# Altium schematic symbol library UserLibrary.SchLib: 88 symbols
Pins are listed as number, name and electrical type; pins without a type are passive.

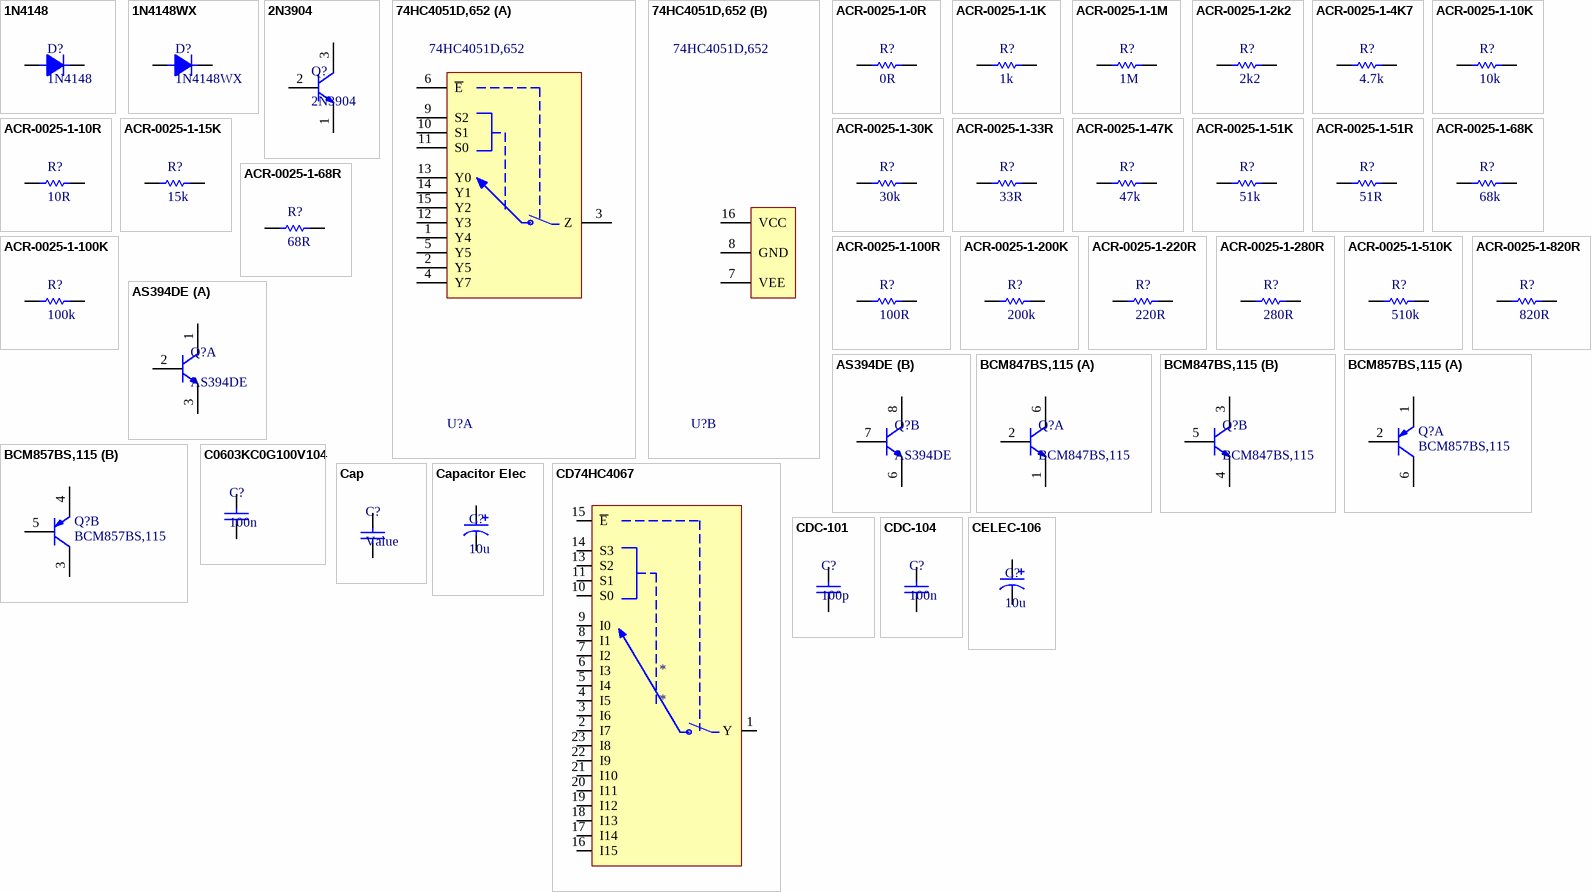
[diagram p0: symbols 1N4148 to CELEC-106]

## 1N4148
designator D?
footprint SOD27
pins: 1, 2

## 1N4148WX
designator D?
footprint SOD323
pins: 1, 2

## 2N3904
designator Q?
footprint TO-92
pins: 1, 2, 3

## 74HC4051D,652
designator U?
IC MUX/DEMUX 8X1 16SOIC; Manufacturer: Nexperia; Supplier 1: RSComponents; Manufacturer Part Number: 74HC4051D,652; RoHS: Yes; Category: Decoders and Multiplexers; Stock 1: 155; Pricing 1: 1=0.52000, 70=0.49300, 100=0.47900, 250=0.43800, 500=0.42400 (USD); RoHS Compliant: Yes; ComponentLink1URL: https://assets.nexperia.com/documents/data-sheet/74HC_HCT4051.pdf?src-supplier=Digi-Key; ComponentLink1Description: https://assets.nexperia.com/documents/data-sheet/74HC_HCT4051.pdf?src-supplier=Digi-Key; Supplier Part Number 1: 1697756
footprint SOIC16
part A pins: 1 Y4, 2 Y5, 3 Z, 4 Y7, 5 Y5, 6 ~{E}, 9 S2, 10 S1, 11 S0, 12 Y3, 13 Y0, 14 Y1, 15 Y2
part B pins: 7 VEE, 8 GND, 16 VCC

## ACR-0025-1-0R
designator R?, comment 0R
Axial Carbon Film Resistor
footprint Axial 0.25W Resistor
pins: 1, 2

## ACR-0025-1-1K
designator R?, comment 1k
Axial Carbon Film Resistor
footprint Axial 0.25W Resistor
pins: 1, 2

## ACR-0025-1-1M
designator R?, comment 1M
Axial Carbon Film Resistor
footprint Axial 0.25W Resistor
pins: 1, 2

## ACR-0025-1-2k2
designator R?, comment 2k2
Axial Carbon Film Resistor
footprint Axial 0.25W Resistor
pins: 1, 2

## ACR-0025-1-4K7
designator R?, comment 4.7k
Axial Carbon Film Resistor
footprint Axial 0.25W Resistor
pins: 1, 2

## ACR-0025-1-10K
designator R?, comment 10k
Axial Carbon Film Resistor
footprint Axial 0.25W Resistor
pins: 1, 2

## ACR-0025-1-10R
designator R?, comment 10R
Axial Carbon Film Resistor
footprint Axial 0.25W Resistor
pins: 1, 2

## ACR-0025-1-15K
designator R?, comment 15k
Axial Carbon Film Resistor
footprint Axial 0.25W Resistor
pins: 1, 2

## ACR-0025-1-30K
designator R?, comment 30k
Axial Carbon Film Resistor
footprint Axial 0.25W Resistor
pins: 1, 2

## ACR-0025-1-33R
designator R?, comment 33R
Axial Carbon Film Resistor
footprint Axial 0.25W Resistor
pins: 1, 2

## ACR-0025-1-47K
designator R?, comment 47k
Axial Carbon Film Resistor
footprint Axial 0.25W Resistor
pins: 1, 2

## ACR-0025-1-51K
designator R?, comment 51k
Axial Carbon Film Resistor
footprint Axial 0.25W Resistor
pins: 1, 2

## ACR-0025-1-51R
designator R?, comment 51R
Axial Carbon Film Resistor
footprint Axial 0.25W Resistor
pins: 1, 2

## ACR-0025-1-68K
designator R?, comment 68k
Axial Carbon Film Resistor
footprint Axial 0.25W Resistor
pins: 1, 2

## ACR-0025-1-68R
designator R?, comment 68R
Axial Carbon Film Resistor
footprint Axial 0.25W Resistor
pins: 1, 2

## ACR-0025-1-100K
designator R?, comment 100k
Axial Carbon Film Resistor
footprint Axial 0.25W Resistor
pins: 1, 2

## ACR-0025-1-100R
designator R?, comment 100R
Axial Carbon Film Resistor
footprint Axial 0.25W Resistor
pins: 1, 2

## ACR-0025-1-200K
designator R?, comment 200k
Axial Carbon Film Resistor
footprint Axial 0.25W Resistor
pins: 1, 2

## ACR-0025-1-220R
designator R?, comment 220R
Axial Carbon Film Resistor
footprint Axial 0.25W Resistor
pins: 1, 2

## ACR-0025-1-280R
designator R?, comment 280R
Axial Carbon Film Resistor
footprint Axial 0.25W Resistor
pins: 1, 2

## ACR-0025-1-510K
designator R?, comment 510k
Axial Carbon Film Resistor
footprint Axial 0.25W Resistor
pins: 1, 2

## ACR-0025-1-820R
designator R?, comment 820R
Axial Carbon Film Resistor
footprint Axial 0.25W Resistor
pins: 1, 2

## AS394DE
designator Q?
footprint SOIC8
part A pins: 1, 2, 3
part B pins: 6, 7, 8

## BCM847BS,115
designator Q?
Trans GP BJT NPN 45V 0.1A 300mW Automotive 6-Pin TSSOP T/R; Manufacturer: Nexperia; Supplier 1: RSComponents; Manufacturer Part Number: BCM847BS,115; RoHS: Yes; Stock 1: 320; Pricing 1: 20=0.28200, 200=0.14100 (USD); RoHS Compliant: Yes; Supplier Part Number 1: 7920844
footprint SOT363
part A pins: 1, 2, 6
part B pins: 3, 4, 5

## BCM857BS,115
designator Q?
TRANS 2PNP 45V 0.1A 6TSSOP; Manufacturer: Nexperia; Supplier 1: RSComponents; Manufacturer Part Number: BCM857BS,115; RoHS: Yes; Category: BJTs; Stock 1: 1940; Pricing 1: 20=0.28200, 100=0.24000, 400=0.21200, 1000=0.18300 (USD); ComponentLink1URL: https://assets.nexperia.com/documents/data-sheet/BCM857BV_BS_DS.pdf?src-supplier=Digi-Key; ComponentLink1Description: https://assets.nexperia.com/documents/data-sheet/BCM857BV_BS_DS.pdf?src-supplier=Digi-Key; Supplier Part Number 1: 0509706
footprint SOT363
part A pins: 1, 2, 6
part B pins: 3, 4, 5

## C0603KC0G100V104
designator C?, comment 100n
footprint C0603
pins: 1, 2

## Cap
designator C?, comment Value
footprint C0805
pins: 1, 2

## Capacitor Elec
designator C?, comment 10u
footprint CELEC_SIZE_B
pins: 1, 2

## CD74HC4067
designator *
pins: 1 Y, 2 I7, 3 I6, 4 I5, 5 I4, 6 I3, 7 I2, 8 I1, 9 I0, 10 S0, 11 S1, 13 S2, 14 S3, 15 ~{E}, 16 I15, 17 I14, 18 I13, 19 I12, 20 I11, 21 I10, 22 I9, 23 I8

## CDC-101
designator C?, comment 100p
footprint CAP DISC 2.54MM PITCH 5.0 DIAMETER
pins: 1, 2

## CDC-104
designator C?, comment 100n
footprint CAP DISC 2.54MM PITCH 5.0 DIAMETER
pins: 1, 2

## CELEC-106
designator C?, comment 10u
Radial Electrolytic Capacitor
footprint CELEC_R_5x11_3
pins: 1, 2

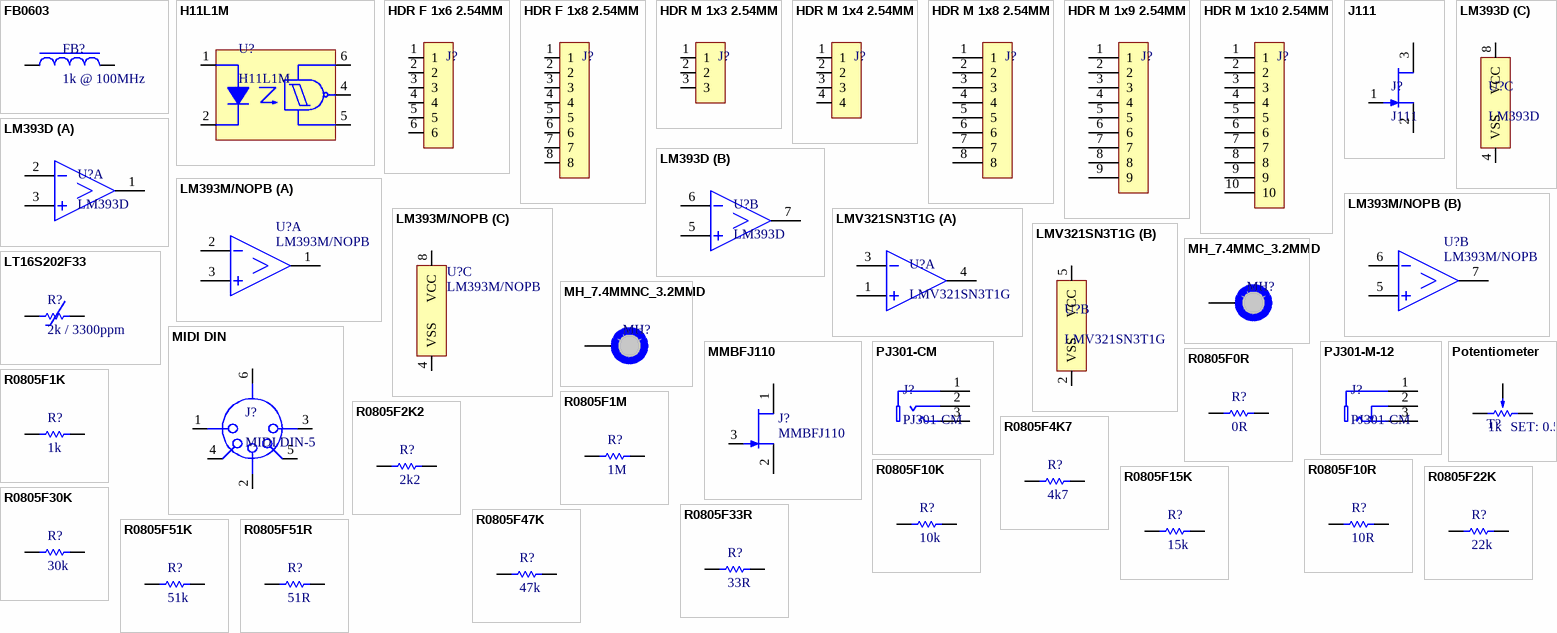
[diagram p1: symbols FB0603 to R0805F51R]

## FB0603
designator FB?, comment 1k @ 100MHz
footprint FB0603
pins: 1, 2

## H11L1M
designator U?
footprint H11L1M
pins: 1 A, 2 K, 4 Vo, 5 GND, 6 VCC

## HDR F 1x6 2.54MM
designator J?, comment HDR M  (value not drawn)
footprint HDR F 1x6 2.54MM
pins: 1, 2, 3, 4, 5, 6

## HDR F 1x8 2.54MM
designator J?  (value not drawn)
footprint HDR F 1x8 2.54MM
pins: 1, 2, 3, 4, 5, 6, 7, 8

## HDR M 1x3 2.54MM
designator J?, comment HDR M  (value not drawn)
footprint HDR M 1x3 2.54MM
pins: 1, 2, 3

## HDR M 1x4 2.54MM
designator J?, comment HDR 1x4  (value not drawn)
footprint HDR M 1x4 2.54MM
pins: 1, 2, 3, 4

## HDR M 1x8 2.54MM
designator J?  (value not drawn)
footprint HDR M 1x8 2.54MM
pins: 1, 2, 3, 4, 5, 6, 7, 8

## HDR M 1x9 2.54MM
designator J?, comment HDR M 1x8 2.54MM  (value not drawn)
footprint HDR M 1x9 2.54MM
pins: 1, 2, 3, 4, 5, 6, 7, 8, 9

## HDR M 1x10 2.54MM
designator J?, comment HDR M 1x8 2.54MM  (value not drawn)
footprint HDR M 1x10 2.54MM
pins: 1, 2, 3, 4, 5, 6, 7, 8, 9, 10

## J111
designator J?
footprint TO-92
pins: 1, 2, 3

## LM393D
designator U?
STMICROELECTRONICS - LM393D - COMPARATOR, DUAL, MICROPWR, 8SOIC; Number of Channels: 2; Voltage Gain: 106.02dB; Min Supply Voltage: 2V; Max Supply Voltage: 36V; Min Dual Supply Voltage: 1V; Max Dual Supply Voltage: 18V; Max Power Dissipation: 710mW; Nominal Supply Current: 1mA; Dual Supply Voltage: 9V; Propagation Delay: 1.3us; Input Bias Current: 250nA; Output Current per Channel: 100pA; Input Offset Voltage (Vos): 5mV; Output Current: 18mA; Quiescent Current: 2.5mA; Natural Thermal Resistance: 125°C/W; Output Type: TTL; Supplier 1: RSComponents; Manufacturer: STMicroelectronics; Manufacturer Part Number: LM393D; RoHS: Yes; Category: Comparators; Stock 1: 600; Pricing 1: 20=0.11400, 100=0.09600, 400=0.08600, 1000=0.07400 (USD); Mount: Surface Mount; Case/Package: SO; Number of Pins: 8; Weight: 0.01lb; Min Operating Temperature: 0°C; Max Operating Temperature: 70°C; Packaging: Rail/Tube; Package Quantity: 100; Series: LM393; Number of Elements: 2; Max Supply Current: 1mA; Response Time: 1.3us; Max Input Current: 250nA; Turn-On Delay Time: 1.3us; Power Dissipation: 710mW; Type: General Purpose; Supply Current: 1mA; Amplifier Type: COMPARATOR; Technology: BIPOLAR; Length: 4.9mm; Width: 3.9mm; Height: 1.25mm; Radiation Hardening: No; RoHS Compliant: Yes; Lead Free: Lead Free; REACH SVHC: No SVHC; ComponentLink1URL: https://datasheet.ciiva.com/29306/155601-da-01-en-komp-lm393d-stm-29306834.pdf?src-supplier=Conrad; ComponentLink1Description: https://datasheet.ciiva.com/29306/155601-da-01-en-komp-lm393d-stm-29306834.pdf?src-supplier=Conrad; ComponentLink2URL: https://datasheet.ciiva.com/1483/1689826-1483064.pdf?src-supplier=Element14; ComponentLink2Description: https://datasheet.ciiva.com/1483/1689826-1483064.pdf?src-supplier=Element14; ComponentLink3URL: https://datasheet.ciiva.com/14153/lflm393-datasheet-en-14153098.pdf?src-supplier=Distrelec; ComponentLink3Description: https://datasheet.ciiva.com/14153/lflm393-datasheet-en-14153098.pdf?src-supplier=Distrelec; ComponentLink4URL: https://datasheet.ciiva.com/1829/cd00000465-1829570.pdf?src-supplier=Digi-Key; ComponentLink4Description: https://datasheet.ciiva.com/1829/cd00000465-1829570.pdf?src-supplier=Digi-Key; Supplier Part Number 1: 7140830
footprint SOIC8
part A pins: 1, 2, 3
part B pins: 5, 6, 7
part C pins: 4 VSS, 8 VCC

## LM393M/NOPB
designator U?
IC COMP DUAL LO PWR 8-SOIC; Manufacturer: TI National Semiconductor; Nominal Supply Current: 1mA; Output Current: 16mA; Number of Channels: 2; Response Time: 1.3us; Quiescent Current: 2.5mA; Max Supply Voltage: 36V; Min Supply Voltage: 2V; Voltage Gain: 106.02dB; Min Dual Supply Voltage: 1V; Max Dual Supply Voltage: 18V; Max Supply Current: 200uA; Input Bias Current: 250nA; Input Offset Voltage (Vos): 5mV; Output Type: TTL; Dual Supply Voltage: 9V; Operating Supply Voltage: 28V; Max Power Dissipation: 510mW; Propagation Delay: 700ns; Turn-On Delay Time: 0.4us; Output Compatibility: CMOS; Supplier 1: RSComponents; Manufacturer Part Number: LM393M/NOPB; RoHS: Yes; Category: Amplifiers - Op Amps, Buffer, Instrumentation; Stock 1: 691; Pricing 1: 1=0.95800, 5=0.86200, 10=0.76700, 25=0.72600, 50=0.67100 (USD); Mount: Surface Mount; Case/Package: SOIC; Number of Pins: 8; Min Operating Temperature: 0°C; Max Operating Temperature: 70°C; Packaging: Rail/Tube; Number of Elements: 2; Package Quantity: 95; Supply Current: 1mA; Series: -; Technology: BIPOLAR; Max Input Current: 250nA; Power Dissipation: 510mW; Type: General Purpose; Termination: SMD/SMT; Length: 4.9mm; Width: 3.9mm; Height: 1.45mm; Radiation Hardening: No; Lead Free: Lead Free; RoHS Compliant: Yes; REACH SVHC: No SVHC; ComponentLink1URL: https://datasheet.ciiva.com/1483/1837571-1483072.pdf?src-supplier=Element14; ComponentLink1Description: https://datasheet.ciiva.com/1483/1837571-1483072.pdf?src-supplier=Element14; ComponentLink2URL: https://datasheet.ciiva.com/19456/901191-19456110.pdf?src-supplier=Jameco; ComponentLink2Description: https://datasheet.ciiva.com/19456/901191-19456110.pdf?src-supplier=Jameco; ComponentLink3URL: https://datasheet.ciiva.com/15130/getdatasheetpartid-141687-15130895.pdf?src-supplier=Verical; ComponentLink3Description: https://datasheet.ciiva.com/15130/getdatasheetpartid-141687-15130895.pdf?src-supplier=Verical; ComponentLink4URL: https://datasheet.ciiva.com/16464/lm193-n-16464325.pdf?src-supplier=Avnet+Asia; ComponentLink4Description: https://datasheet.ciiva.com/16464/lm193-n-16464325.pdf?src-supplier=Avnet+Asia; ComponentLink5URL: https://datasheet.ciiva.com/14153/oilmx93-2903-dat-e-14153111.pdf?src-supplier=Distrelec; ComponentLink5Description: https://datasheet.ciiva.com/14153/oilmx93-2903-dat-e-14153111.pdf?src-supplier=Distrelec; ComponentLink6URL: https://datasheet.ciiva.com/6625/lm193-n-6625114.pdf?src-supplier=Digi-Key; ComponentLink6Description: https://datasheet.ciiva.com/6625/lm193-n-6625114.pdf?src-supplier=Digi-Key; ComponentLink7URL: https://datasheet.ciiva.com/2970/lm193-n-2970524.pdf?src-supplier=Avnet; ComponentLink7Description: https://datasheet.ciiva.com/2970/lm193-n-2970524.pdf?src-supplier=Avnet; Supplier Part Number 1: 5361388
footprint PDIP8
part A pins: 1, 2, 3
part B pins: 5, 6, 7
part C pins: 4 VSS, 8 VCC

## LMV321SN3T1G
designator U?
ON SEMICONDUCTOR - LMV321SN3T1G - OP-AMP, SINGLE, 1MHZ, 1V/US, TSOP-5; Operating Supply Voltage: 3V; Min Supply Voltage: 2.7V; Max Supply Voltage: 5V; Common Mode Rejection Ratio: 50dB; Number of Channels: 1; Output Current: 160mA; Nominal Supply Current: 250uA; Voltage Gain: 100dB; Slew Rate: 1V/µs; Input Bias Current: 1nA; Input Offset Voltage (Vos): 9mV; Operating Supply Current: 130uA; Amplifier Type: GENERAL PURPOSE; Supplier 1: RSComponents; Manufacturer: ON Semiconductor; Manufacturer Part Number: LMV321SN3T1G; RoHS: Yes; Category: Amplifiers - Op Amps, Buffer, Instrumentation; Stock 1: 3580; Pricing 1: 20=0.11000, 100=0.21500, 1000=0.15900, 3000=0.14200, 9000=0.14000 (USD); Case/Package: TSOP; Number of Pins: 5; Contact Plating: Tin,Matte; Min Operating Temperature: -40°C; Max Operating Temperature: 85°C; Packaging: Tape and Reel; Unity Gain Bandwidth Product: 1MHz; Package Quantity: 3000; Nominal Gain Bandwidth Product: 1MHz; Number of Circuits: 1; Gain Bandwidth Product: 1MHz; Output Current per Channel: 160mA; Number of Elements: 1; Power Supply Rejection Ratio (PSRR): 50dB; Supply Current: 250uA; Series: -; Technology: CMOS; Input Offset Voltage-Max: 9mV; Slew Rate-Nom: 1V/µs; Length: 3mm; Width: 1.5mm; Height: 1mm; Radiation Hardening: No; Lead Free: Lead Free; Halogen Free: Halogen Free; RoHS Compliant: Yes; ComponentLink1URL: https://datasheet.ciiva.com/30481/0900766b81267f93-30481486.pdf?src-supplier=RSComponents; ComponentLink1Description: https://datasheet.ciiva.com/30481/0900766b81267f93-30481486.pdf?src-supplier=RSComponents; ComponentLink2URL: https://datasheet.ciiva.com/6627/lmv321-lmv358-lmv324-d-6627357.pdf?src-supplier=Digi-Key; ComponentLink2Description: https://datasheet.ciiva.com/6627/lmv321-lmv358-lmv324-d-6627357.pdf?src-supplier=Digi-Key; ComponentLink3URL: https://datasheet.ciiva.com/11710/lmv321-lmv358-lmv324-d-11710749.pdf?src-supplier=Avnet; ComponentLink3Description: https://datasheet.ciiva.com/11710/lmv321-lmv358-lmv324-d-11710749.pdf?src-supplier=Avnet; ComponentLink4URL: https://datasheet.ciiva.com/16456/lmv321-lmv358-lmv324-d-16456749.pdf?src-supplier=Future+Electronics; ComponentLink4Description: https://datasheet.ciiva.com/16456/lmv321-lmv358-lmv324-d-16456749.pdf?src-supplier=Future+Electronics; ComponentLink5URL: https://datasheet.ciiva.com/6627/lmv321-lmv358-lmv324-d-6627359.pdf?src-supplier=Digi-Key; ComponentLink5Description: https://datasheet.ciiva.com/6627/lmv321-lmv358-lmv324-d-6627359.pdf?src-supplier=Digi-Key; Supplier Part Number 1: 7878661
footprint TSOP5
part A pins: 1, 3, 4
part B pins: 2 VSS, 5 VCC

## LT16S202F33
designator R?, comment 2k / 3300ppm
footprint Axial 0.125W Resistor
pins: 1, 2

## MH_7.4MMC_3.2MMD
designator MH?  (value not drawn)  (no BOM)
Mounting hole 7.4mm Diameter, 3.2mm Drill
footprint MH_7.4MMD_3.2MMD
pins: 1

## MH_7.4MMNC_3.2MMD
designator MH?  (value not drawn)  (no BOM)
Mounting Hole 7.4mm Diameter (Non Copper), 3.2 Drill NPTH
footprint MH_7.4MMD_3.2MMD_NON_COPPER_NPTH
pins: 1

## MIDI DIN
designator J?, comment MIDI DIN-5
footprint 5 PIN MIDI
pins: 1, 2, 3, 4, 5, 6

## MMBFJ110
designator J?
MOSFET N-CH FET/SSOT-23; Manufacturer: ON Semiconductor / Fairchild; Continuous Drain Current (ID): 10mA; Drain to Source Resistance: 18R; Power Dissipation: 460mW; Gate to Source Voltage (Vgs): -25V; Drain to Source Voltage (Vdss): 25V; Element Configuration: Single; Polarity: N-CHANNEL; Supplier 1: RSComponents; Manufacturer Part Number: MMBFJ110; RoHS: Yes; Category: JFETs; Stock 1: 7200; Pricing 1: 25=0.11600, 125=0.19900, 250=0.18900, 1250=0.14900, 2500=0.14200 (USD); Mount: Surface Mount; Case/Package: SMD/SMT; Number of Pins: 3; Weight: 0.03g; Min Operating Temperature: -55°C; Max Operating Temperature: 150°C; Packaging: Tape and Reel; Package Quantity: 3000; Max Power Dissipation: 460mW; On-State Resistance: 18R; Drain-source On Resistance-Max: 18R; Length: 2.92mm; Width: 1.4mm; Height: 0.94mm; Radiation Hardening: No; Lead Free: Lead Free; RoHS Compliant: Yes; ComponentLink1URL: https://datasheet.ciiva.com/26911/getdatasheetpartid-734397-26911964.pdf?src-supplier=Verical; ComponentLink1Description: https://datasheet.ciiva.com/26911/getdatasheetpartid-734397-26911964.pdf?src-supplier=Verical; ComponentLink2URL: https://datasheet.ciiva.com/4441/mmbfj110-113970-4441425.pdf?src-supplier=Mouser; ComponentLink2Description: https://datasheet.ciiva.com/4441/mmbfj110-113970-4441425.pdf?src-supplier=Mouser; ComponentLink3URL: https://datasheet.ciiva.com/6388/mmbfj110-6388372.pdf?src-supplier=Digi-Key; ComponentLink3Description: https://datasheet.ciiva.com/6388/mmbfj110-6388372.pdf?src-supplier=Digi-Key; ComponentLink4URL: https://datasheet.ciiva.com/14845/mmbfj110-14845094.pdf?src-supplier=Digi-Key; ComponentLink4Description: https://datasheet.ciiva.com/14845/mmbfj110-14845094.pdf?src-supplier=Digi-Key; ComponentLink5URL: https://datasheet.ciiva.com/14845/mmbfj110-14845096.pdf?src-supplier=Digi-Key; ComponentLink5Description: https://datasheet.ciiva.com/14845/mmbfj110-14845096.pdf?src-supplier=Digi-Key; ComponentLink6URL: https://datasheet.ciiva.com/14845/mmbfj110-14845099.pdf?src-supplier=Digi-Key; ComponentLink6Description: https://datasheet.ciiva.com/14845/mmbfj110-14845099.pdf?src-supplier=Digi-Key; Supplier Part Number 1: 8064302
footprint SSOT3
pins: 1, 2, 3

## PJ301-CM
designator J?
footprint PJ301-CM
pins: 1, 2, 3

## PJ301-M-12
designator J?, comment PJ301-CM
footprint PJ301-M-12
pins: 1, 2, 3

## Potentiometer
designator T?, comment value 1k  SET: 0.5  (hidden comment: RV0932)
footprint RV0932
pins: 1, 2, 3

## R0805F0R
designator R?, comment 0R
footprint R0805
pins: 1, 2

## R0805F1K
designator R?, comment 1k
footprint R0805
pins: 1, 2

## R0805F1M
designator R?, comment 1M
footprint R0805
pins: 1, 2

## R0805F2K2
designator R?, comment 2k2
footprint R0805
pins: 1, 2

## R0805F4K7
designator R?, comment 4k7
footprint R0805
pins: 1, 2

## R0805F10K
designator R?, comment 10k
footprint R0805
pins: 1, 2

## R0805F10R
designator R?, comment 10R
footprint R0805
pins: 1, 2

## R0805F15K
designator R?, comment 15k
footprint R0805
pins: 1, 2

## R0805F22K
designator R?, comment 22k
footprint R0805
pins: 1, 2

## R0805F30K
designator R?, comment 30k
footprint R0805
pins: 1, 2

## R0805F33R
designator R?, comment 33R
footprint R0805
pins: 1, 2

## R0805F47K
designator R?, comment 47k
footprint R0805
pins: 1, 2

## R0805F51K
designator R?, comment 51k
footprint R0805
pins: 1, 2

## R0805F51R
designator R?, comment 51R
footprint R0805
pins: 1, 2

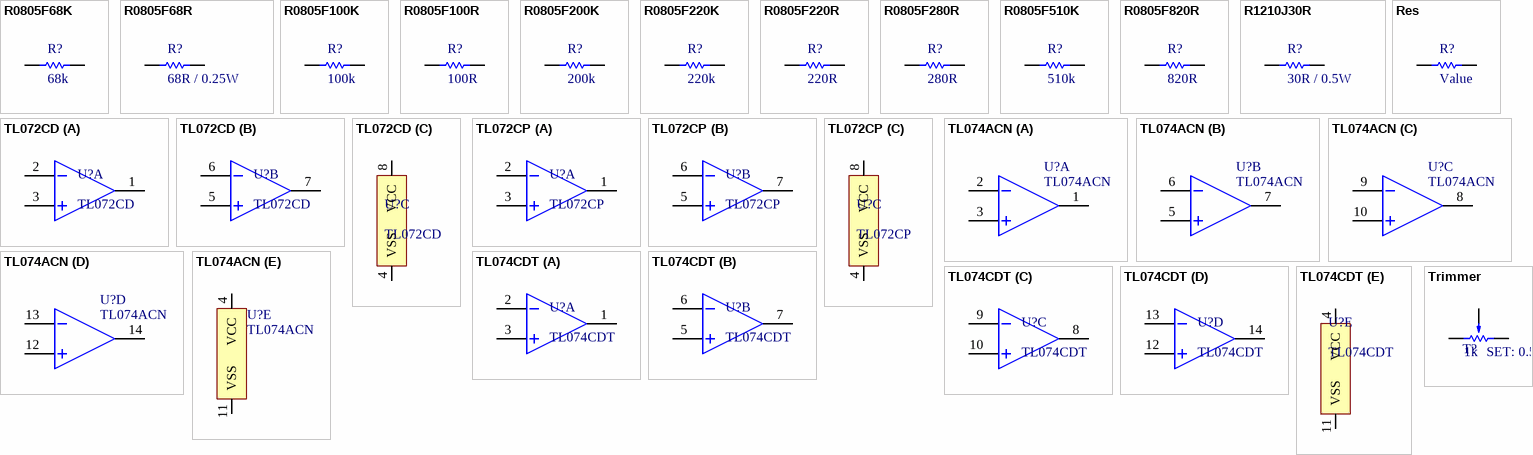
[diagram p2: symbols R0805F68K to Trimmer]

## R0805F68K
designator R?, comment 68k
footprint R0805
pins: 1, 2

## R0805F68R
designator R?, comment 68R / 0.25W
footprint R0805
pins: 1, 2

## R0805F100K
designator R?, comment 100k
footprint R0805
pins: 1, 2

## R0805F100R
designator R?, comment 100R
footprint R0805
pins: 1, 2

## R0805F200K
designator R?, comment 200k
footprint R0805
pins: 1, 2

## R0805F220K
designator R?, comment 220k
footprint R0805
pins: 1, 2

## R0805F220R
designator R?, comment 220R
footprint R0805
pins: 1, 2

## R0805F280R
designator R?, comment 280R
footprint R0805
pins: 1, 2

## R0805F510K
designator R?, comment 510k
footprint R0805
pins: 1, 2

## R0805F820R
designator R?, comment 820R
footprint R0805
pins: 1, 2

## R1210J30R
designator R?, comment 30R / 0.5W
footprint R1210
pins: 1, 2

## Res
designator R?, comment Value
footprint R0805
pins: 1, 2

## TL072CD
designator U?
IC OPAMP JFET 4MHZ 8SO; Manufacturer: STMicroelectronics; Common Mode Rejection Ratio: 70dB; Number of Channels: 2; Output Current: 40mA; Max Supply Voltage: 36V; Slew Rate: 16V/µs; Nominal Supply Current: 2.5mA; Min Dual Supply Voltage: 3V; Max Dual Supply Voltage: 18V; Voltage Gain: 106.02dB; Dual Supply Voltage: 15V; Min Input Voltage: -12V; Input Offset Voltage (Vos): 10mV; Input Bias Current: 200pA; Operating Supply Current: 1.4mA; Amplifier Type: LOW NOISE; Input Offset Voltage-Max: 3mV; Slew Rate-Nom: 13V/µs; Supplier 1: RSComponents; Manufacturer Part Number: TL072CD; RoHS: Yes; Category: Amplifiers - Op Amps, Buffer, Instrumentation; Stock 1: 5340; Pricing 1: 20=0.16300, 200=0.15100, 500=0.14100, 1000=0.13000, 2000=0.11900 (USD); Mount: Surface Mount; Case/Package: SO; Number of Pins: 8; Min Operating Temperature: 0°C; Max Operating Temperature: 70°C; Package Quantity: 100; Packaging: Rail/Tube; Unity Gain Bandwidth Product: 4MHz; Operating Supply Voltage: 18V; Max Input Voltage: 15V; Gain Bandwidth Product: 4MHz; Number of Circuits: 2; Output Current per Channel: 40mA; Number of Elements: 2; Number of Amplifiers: 2; Supply Current: 2.5mA; Technology: BIFET; Series: -; Length: 5mm; Width: 4mm; Height: 1.25mm; Radiation Hardening: No; REACH SVHC: No SVHC; Lead Free: Lead Free; RoHS Compliant: Yes; ComponentLink1URL: https://datasheet.ciiva.com/16740/cd00000490-16740758.pdf?src-supplier=Future+Electronics; ComponentLink1Description: https://datasheet.ciiva.com/16740/cd00000490-16740758.pdf?src-supplier=Future+Electronics; ComponentLink2URL: https://datasheet.ciiva.com/29306/155615-da-01-en-op-verst-tl072cd-stm-29306852.pdf?src-supplier=Conrad; ComponentLink2Description: https://datasheet.ciiva.com/29306/155615-da-01-en-op-verst-tl072cd-stm-29306852.pdf?src-supplier=Conrad; ComponentLink3URL: https://datasheet.ciiva.com/26847/tl072cd-26847439.pdf?src-supplier=IIIC; ComponentLink3Description: https://datasheet.ciiva.com/26847/tl072cd-26847439.pdf?src-supplier=IIIC; ComponentLink4URL: https://datasheet.ciiva.com/8008/1674510-8008555.pdf?src-supplier=Element14; ComponentLink4Description: https://datasheet.ciiva.com/8008/1674510-8008555.pdf?src-supplier=Element14; ComponentLink5URL: https://datasheet.ciiva.com/14544/70014130-14544918.pdf?src-supplier=Allied+Electronics; ComponentLink5Description: https://datasheet.ciiva.com/14544/70014130-14544918.pdf?src-supplier=Allied+Electronics; ComponentLink6URL: https://datasheet.ciiva.com/1811/cd00000490-1811820.pdf?src-supplier=Digi-Key; ComponentLink6Description: https://datasheet.ciiva.com/1811/cd00000490-1811820.pdf?src-supplier=Digi-Key; Supplier Part Number 1: 7141082
footprint SOIC8
part A pins: 1, 2, 3
part B pins: 5, 6, 7
part C pins: 4 VSS, 8 VCC

## TL072CP
designator U?
IC, OP AMP, DUAL JFET, DIP8; Bandwidth:3MHz; No. of Amplifiers:2; Slew Rate:13V/ s; Supply Voltage Range:7V to 36V; Amplifier Case Style:DIP; No. of Pins:8; Operating Temperature Min:0 C; Operating Temperature Max:70 C; ;RoHS Compliant: Yes; Manufacturer: Texas Instruments; Number of Circuits: 2; Gain Bandwidth Product: 3MHz; Slew Rate: 13V/µs; Input Bias Current: 200pA; Input Offset Voltage (Vos): 3mV; Operating Supply Current: 1.4mA; Voltage Gain: 106.02dB; Nominal Supply Current: 5mA; Max Dual Supply Voltage: 18V; Min Dual Supply Voltage: 3.5V; Common Mode Rejection Ratio: 70dB; Max I/O Voltage: 10mV; Dual Supply Voltage: 9V; Supplier 1: RSComponents; Manufacturer Part Number: TL072CP; RoHS: Yes; Category: Amplifiers - Op Amps, Buffer, Instrumentation; Stock 1: 796; Pricing 1: 1=1.09500, 5=0.98600, 10=0.87600, 15=0.82100, 25=0.76700 (USD); Case/Package: P; Number of Pins: 8; Contact Plating: Gold; Min Operating Temperature: -40°C; Max Operating Temperature: 85°C; Packaging: Rail/Tube; Bandwidth: 3MHz; Number of Channels: 2; Package Quantity: 50; Nominal Gain Bandwidth Product: 3MHz; Unity Gain Bandwidth Product: 3MHz; Number of Elements: 2; Max Supply Voltage: 18V; Number of Amplifiers: 2; Length: 9.81mm; Width: 6.35mm; Height: 4.57mm; Radiation Hardening: No; Lead Free: Lead Free; RoHS Compliant: Yes; REACH SVHC: No SVHC; ComponentLink1URL: https://datasheet.ciiva.com/7709/1764387-7709920.pdf?src-supplier=Element14; ComponentLink1Description: https://datasheet.ciiva.com/7709/1764387-7709920.pdf?src-supplier=Element14; ComponentLink2URL: https://datasheet.ciiva.com/1796/tl071a-1796082.pdf?src-supplier=Digi-Key; ComponentLink2Description: https://datasheet.ciiva.com/1796/tl071a-1796082.pdf?src-supplier=Digi-Key; ComponentLink3URL: https://datasheet.ciiva.com/26243/tl074-26243621.pdf?src-supplier=Avnet+Europe; ComponentLink3Description: https://datasheet.ciiva.com/26243/tl074-26243621.pdf?src-supplier=Avnet+Europe; ComponentLink4URL: https://datasheet.ciiva.com/2974/tl074-2974205.pdf?src-supplier=Avnet; ComponentLink4Description: https://datasheet.ciiva.com/2974/tl074-2974205.pdf?src-supplier=Avnet; Supplier Part Number 1: 0304239
footprint PDIP8
part A pins: 1, 2, 3
part B pins: 5, 6, 7
part C pins: 4 VSS, 8 VCC

## TL074ACN
designator U?
Operational Amplifiers - Op Amps Quad Low Noise JFET; Manufacturer: Texas Instruments; Number of Circuits: 4; Gain Bandwidth Product: 3MHz; Operating Supply Voltage: 18V; Nominal Supply Current: 10mA; Voltage Gain: 106.02dB; Min Dual Supply Voltage: 3.5V; Common Mode Rejection Ratio: 75dB; Slew Rate: 13V/µs; Input Bias Current: 200pA; Input Offset Voltage (Vos): 6mV; Operating Supply Current: 1.4mA; Dual Supply Voltage: 9V; Supplier 1: RSComponents; Manufacturer Part Number: TL074ACN; RoHS: Yes; Category: Amplifiers - Op Amps, Buffer, Instrumentation; Stock 1: 477; Pricing 1: 1=1.20500, 2=1.13600, 5=1.08200, 10=1.01300 (USD); Case/Package: N; Number of Pins: 14; Min Operating Temperature: 0°C; Max Operating Temperature: 70°C; Packaging: Rail/Tube; Bandwidth: 3MHz; Max Dual Supply Voltage: 18V; Package Quantity: 25; Number of Channels: 4; Nominal Gain Bandwidth Product: 3MHz; Max I/O Voltage: 6mV; Unity Gain Bandwidth Product: 3MHz; Number of Elements: 4; Number of Amplifiers: 4; Length: 19.3mm; Width: 6.35mm; Height: 4.57mm; Radiation Hardening: No; Lead Free: Lead Free; RoHS Compliant: Yes; REACH SVHC: No SVHC; ComponentLink1URL: https://datasheet.ciiva.com/23801/tl072-23801536.pdf?src-supplier=Newark; ComponentLink1Description: https://datasheet.ciiva.com/23801/tl072-23801536.pdf?src-supplier=Newark; ComponentLink2URL: https://datasheet.ciiva.com/15129/getdatasheetpartid-30262-15129616.pdf?src-supplier=Verical; ComponentLink2Description: https://datasheet.ciiva.com/15129/getdatasheetpartid-30262-15129616.pdf?src-supplier=Verical; ComponentLink3URL: https://datasheet.ciiva.com/1797/tl071a-1797486.pdf?src-supplier=Digi-Key; ComponentLink3Description: https://datasheet.ciiva.com/1797/tl071a-1797486.pdf?src-supplier=Digi-Key; ComponentLink4URL: https://datasheet.ciiva.com/26244/tl074-26244101.pdf?src-supplier=Avnet+Europe; ComponentLink4Description: https://datasheet.ciiva.com/26244/tl074-26244101.pdf?src-supplier=Avnet+Europe; ComponentLink5URL: https://datasheet.ciiva.com/2974/tl074-2974215.pdf?src-supplier=Avnet; ComponentLink5Description: https://datasheet.ciiva.com/2974/tl074-2974215.pdf?src-supplier=Avnet; ComponentLink6URL: https://datasheet.ciiva.com/14151/nstl071-to-tl074-e-14151144.pdf?src-supplier=Distrelec; ComponentLink6Description: https://datasheet.ciiva.com/14151/nstl071-to-tl074-e-14151144.pdf?src-supplier=Distrelec; Supplier Part Number 1: 1822441
footprint PDIP14
part A pins: 1, 2, 3
part B pins: 5, 6, 7
part C pins: 8, 9, 10
part D pins: 12, 13, 14
part E pins: 4 VCC, 11 VSS

## TL074CDT
designator U?
IC, OP-AMP, 3MHZ, 16V/ us, SOIC-14, FULL REEL; Op Amp Type:Low Noise; No. of Amplifiers:4; Slew Rate:16V/µs; Supply Voltage Range:6V to 36V; Amplifier Case Style:SOIC; No. of Pins:14; Bandwidth:3MHz; Operating Temperature Min:0°C ;RoHS Compliant: Yes; Manufacturer: STMicroelectronics; Slew Rate: 13V/µs; Common Mode Rejection Ratio: 70dB; Max Supply Voltage: 18V; Dual Supply Voltage: 9V; Voltage Gain: 106.02dB; Min Dual Supply Voltage: 3V; Number of Channels: 4; Output Current: 40mA; Nominal Supply Current: 2.5mA; Input Bias Current: 200pA; Input Offset Voltage (Vos): 10mV; Operating Supply Current: 1.4mA; Power Dissipation: 680mW; Input Offset Voltage-Max: 3mV; Slew Rate-Nom: 16V/µs; Supplier 1: RSComponents; Manufacturer Part Number: TL074CDT; RoHS: Yes; Category: Amplifiers - Op Amps, Buffer, Instrumentation; Stock 1: 160; Pricing 1: 20=0.35900, 100=0.33800, 200=0.31900, 500=0.30100, 1000=0.28700 (USD); Mount: Surface Mount; Case/Package: SOIC; Number of Pins: 14; Min Operating Temperature: 0°C; Max Operating Temperature: 70°C; Unity Gain Bandwidth Product: 3MHz; Packaging: Tape and Reel; Max Dual Supply Voltage: 18V; Package Quantity: 1; Bandwidth: 3MHz; Number of Circuits: 4; Gain Bandwidth Product: 3MHz; Output Current per Channel: 40mA; Number of Elements: 4; Number of Amplifiers: 4; Series: -; Supply Current: 2.5mA; Technology: BIFET; Length: 8.75mm; Width: 4mm; Height: 1.65mm; Radiation Hardening: No; REACH SVHC: No SVHC; Lead Free: Lead Free; RoHS Compliant: Yes; ComponentLink1URL: https://datasheet.ciiva.com/14151/tl074-st-tds-eng-14151200.pdf?src-supplier=Distrelec; ComponentLink1Description: https://datasheet.ciiva.com/14151/tl074-st-tds-eng-14151200.pdf?src-supplier=Distrelec; ComponentLink2URL: https://datasheet.ciiva.com/26846/tl074cdt-26846561.pdf?src-supplier=IIIC; ComponentLink2Description: https://datasheet.ciiva.com/26846/tl074cdt-26846561.pdf?src-supplier=IIIC; ComponentLink3URL: https://datasheet.ciiva.com/1795/cd00000489-1795724.pdf?src-supplier=Digi-Key; ComponentLink3Description: https://datasheet.ciiva.com/1795/cd00000489-1795724.pdf?src-supplier=Digi-Key; ComponentLink4URL: https://datasheet.ciiva.com/1795/cd00000489-1795725.pdf?src-supplier=Digi-Key; ComponentLink4Description: https://datasheet.ciiva.com/1795/cd00000489-1795725.pdf?src-supplier=Digi-Key; ComponentLink5URL: https://datasheet.ciiva.com/16393/cd00000489-16393405.pdf?src-supplier=Future+Electronics; ComponentLink5Description: https://datasheet.ciiva.com/16393/cd00000489-16393405.pdf?src-supplier=Future+Electronics; ComponentLink6URL: https://datasheet.ciiva.com/1795/cd00000489-1795726.pdf?src-supplier=Digi-Key; ComponentLink6Description: https://datasheet.ciiva.com/1795/cd00000489-1795726.pdf?src-supplier=Digi-Key; ComponentLink7URL: https://datasheet.ciiva.com/41459/001185062-da-01-en-ic-amp-ln-j-fet-qua-tl074cdt-soic-14-stm-41459706.pdf?src-supplier=Conrad; ComponentLink7Description: https://datasheet.ciiva.com/41459/001185062-da-01-en-ic-amp-ln-j-fet-qua-tl074cdt-soic-14-stm-41459706.pdf?src-supplier=Conrad; Supplier Part Number 1: 7147487
footprint SOIC14
part A pins: 1, 2, 3
part B pins: 5, 6, 7
part C pins: 8, 9, 10
part D pins: 12, 13, 14
part E pins: 4 VCC, 11 VSS

## Trimmer
designator T?  value 1k  SET: 0.5  (hidden comment: Trimmer)
footprint 3296W
pins: 1, 2, 3